# Altium footprint library 工控板PCB.PcbLib: 51 footprints (part 1 of 4)
Each footprint in its own frame and in the unit in brackets; x right, y up, seen from the top. Pads: shape width x height; smd on the part's side, far side on the other; paste and mask are expansions set on the pad; w line width, h text height; cw(c..) or ccw(c..) is an arc to the next point about the centre after c.
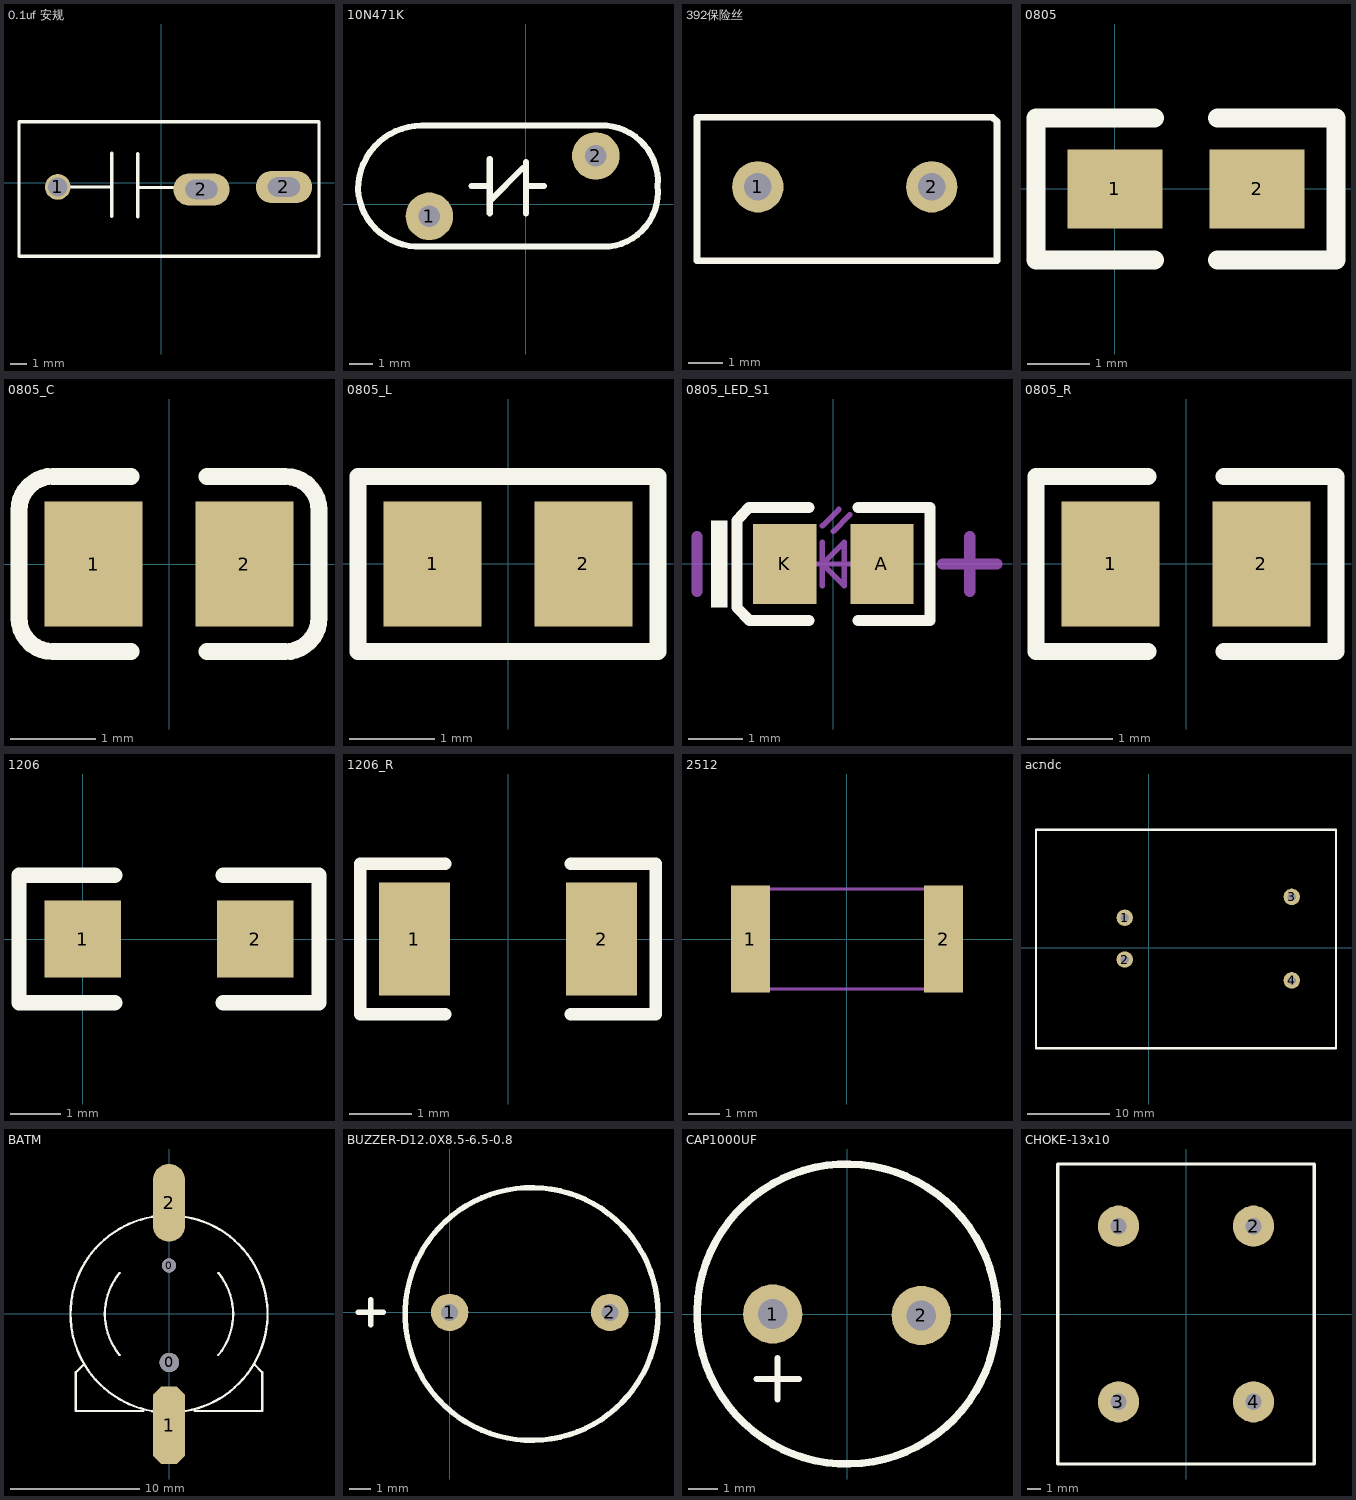
[diagram p0: the footprints below, top view; thin cyan lines are the x and y axes]

## 0.1uf 安规 [mm]
pads (3):
  round 1.6 hole 1.2: 1(-6.452,-0.254)
  oval 3.5x2 hole 1.2 slot 2 at 0 deg: 2(2.489,-0.406) 2(7.62,-0.254)
Top Overlay:
  lines w0.2: -5.817,-0.254 -3.226,-0.254 ; -3.099,-2.083 -3.099,1.854 ; -1.473,-2.108 -1.473,1.829 ; -1.422,-0.279 1.118,-0.279 ; 1.93,-0.254 3.708,-0.254 ; -8.865,-4.572 9.804,-4.572 9.804,3.81 -8.865,3.81 -8.865,-4.572

## 10N471K [mm]
pads (2):
  round 2 hole 0.9: 1(-4.064,-0.508) 2(2.936,2.032)
Top Overlay:
  lines w0.254: -4.521,-1.778 3.48,-1.778 ; -4.394,-1.778 cw(c-4.521,0.762) -7.061,0.635 cw(c-4.394,0.635) -4.394,3.302 3.353,3.302 ; -2.286,0.762 -1.524,0.762 ; -1.524,-0.381 -1.524,1.905 ; -1.524,0 -1.524,0.127 -0.127,1.524 ; 0,-0.381 0,1.778 0,1.143 ; 0,0.762 0.762,0.762 ; 3.378,3.302 cw(c3.188,0.953) 5.537,0.762 cw(c3.251,0.508) 3.505,-1.778

## 392保险丝 [mm]
pads (2):
  round 1.5 hole 0.8: 1(-12.954,-13.716) 2(-7.874,-13.716)
Top Overlay:
  lines w0.2: -10.541,-15.875 -8.636,-15.875 -6.223,-15.875 -5.969,-15.875 -5.969,-11.811 -6.096,-11.684 -8.636,-11.684 -10.541,-11.684 ; -10.414,-15.875 -12.827,-15.875 -14.732,-15.875 -14.732,-11.684 -12.827,-11.684 -10.414,-11.684

## 0805 [mil]
pads (2):
  rect 60x50 smd: 1(0,-0.06) 2(90,-0.06)
Top Overlay:
  lines w12: 25,-45.06 -50,-45.06 -50,44.94 25,44.94 ; 65,-45.06 140,-45.06 140,44.94 65,44.94

## 0805_C [mm]
pads (2):
  rect 1.16x1.47 smd: 1(-0.89,0) 2(0.89,0)
Top Overlay:
  lines w0.2: -0.45,-1.035 -1.37,-1.035 cw(c-1.37,-0.635) -1.77,-0.635 -1.77,0.635 cw(c-1.37,0.635) -1.37,1.035 -0.45,1.035 ; 0.45,-1.035 1.37,-1.035 ccw(c1.37,-0.635) 1.77,-0.635 1.77,0.635 ccw(c1.37,0.635) 1.37,1.035 0.45,1.035
3D body "User Library-0805 SMD Capacitor.STEP": height 0.77, standoff -0.01, extent -0.999,-0.625 1.001,0.625

## 0805_L [mm]
pads (2):
  rect 1.16x1.47 smd: 1(-0.89,0) 2(0.89,0)
Top Overlay:
  lines w0.2: -1.77,-1.035 -1.77,1.035 1.77,1.035 1.77,-1.035 -1.77,-1.035
3D body "L0805.STEP": height 0.6, standoff -0.02, extent -1.022,-0.637 1.028,0.638

## 0805_LED_S1 [mm]
pads (2):
  rect 1.16x1.47 smd: A(0.89,0) K(-0.89,0)
Top Overlay:
  rectangle: -2.245,-0.8 -1.945,0.8
  lines w0.2: -0.45,-1.035 -1.535,-1.035 -1.77,-0.8 -1.77,0.8 -1.55,1.035 -0.45,1.035 ; 0.45,-1.035 1.77,-1.035 1.77,1.035 0.45,1.035
Mechanical 13:
  lines w0.1: -0.4,0 0.4,0 ; -0.2,-0.4 -0.2,0.4 ; -0.2,0.7 0.1,1 ; 0,0.6 0.3,0.9 ; -0.2,0 0.2,0.4 0.2,-0.4 -0.2,0
Mechanical 15:
  lines w0.203: -2.5,-0.5 -2.5,0.5 ; 2,0 3,0 ; 2.5,-0.5 2.5,0.5
3D body "User Library-led_0805.step": height 1.1, standoff 0, extent -1.01,-0.625 1.01,0.625

## 0805_R [mm]
pads (2):
  rect 1.16x1.47 smd: 1(-0.89,0) 2(0.89,0)
Top Overlay:
  lines w0.2: -0.45,-1.035 -1.77,-1.035 -1.77,1.035 -0.45,1.035 ; 0.45,-1.035 1.77,-1.035 1.77,1.035 0.45,1.035
3D body "User Library-R_0805.STEP": height 0.49, standoff -0.01, extent -0.997,-0.625 1.003,0.625

## 1206 [mil]
pads (2):
  rect 60x60 smd: 1(0,0) 2(135,0)
Top Overlay:
  lines w12: 25,-50 -50,-50 -50,50 25,50 ; 110,-50 185,-50 185,50 110,50

## 1206_R [mm]
pads (2):
  rect 1.13x1.8 smd: 1(-1.49,0) 2(1.49,0)
Top Overlay:
  lines w0.2: -1,-1.2 -2.355,-1.2 -2.355,1.2 -1,1.2 ; 1,-1.2 2.355,-1.2 2.355,1.2 1,1.2
3D body "User Library-RES_3216-1206.STEP": height 0.85, standoff 0, extent -1.7,-0.864 1.65,0.866

## 2512 [mm]
pads (2):
  rect 1.25x3.42 smd: 1(-3.1,0) 2(3.1,0)
Mechanical 13:
  lines w0.1: -3.15,-1.6 3.15,-1.6 3.15,1.6 -3.15,1.6 -3.15,-1.6

## acתdc [mm]
pads (4):
  round 2 hole 1: 1(-2.948,3.666) 2(-2.948,-1.414) 3(17.372,6.206) 4(17.372,-3.954)
Top Overlay:
  lines w0.254: -13.748,-12.214 22.752,-12.214 ; -13.748,-12.124 -13.748,14.376 ; -13.743,14.376 22.752,14.376 22.752,-12.124

## BATM [mm]
pads (4):
  round 1.1 hole 1.1 unplated: 0(0,3.748)
  round 1.5 hole 1.5 unplated: 0(0.025,-3.752)
  oct 2.5x6 smd: 1(0,-8.602)
  oval 2.5x6 smd: 2(0,8.598)
Top Overlay:
  lines w0.178: -6.6,-3.902 -7.2,-4.502 -7.2,-7.502 -2,-7.502 ; -3.815,-3.171 cw(c0,-0.002) -3.812,3.171 ; -0.833,-7.576 cw(c0,-0.002) -7.62,-0.002 cw(c0,-0.002) -0.833,7.573 ; 0.833,-7.576 ccw(c0,-0.002) 0.833,7.573 ; 2,-7.502 7.2,-7.502 7.2,-4.502 6.625,-3.927 ; 3.81,-3.177 ccw(c0,-0.002) 3.812,3.171

## BUZZER-D12.0X8.5-6.5-0.8 [mil] "Buzzer"
height 334.65
pads (2):
  round 70 hole 31.5: 1(0,0) 2(299.21,0)
Top Overlay:
  circle w10: c153,-3 r236.22
  lines w10: -171.26,0 -124.02,0 ; -147.64,-23.62 -147.64,23.62
3D body "BUZZER-12x8.5-6.5.step": height 338.66, standoff -212.52, extent -81.44,-237.22 391,235.22

## CAP1000UF [mm]
pads (2):
  round 2 hole 1: 1(-2.5,0) 2(2.5,-0.05)
Top Overlay:
  circle w0.254: c0,0 r5.052
  lines w0.2: -3.048,-2.184 -1.623,-2.184 ; -2.345,-2.885 -2.345,-1.485

## CHOKE-13x10 [mm] "Choke"
height 27.2
pads (4):
  round 3.048 hole 1.2: 1(-5,6.5) 2(5,6.5) 3(-5,-6.5) 4(5,-6.5)
Top Overlay:
  lines w0.254: -9.5,-11.1 -9.5,11.1 9.5,11.1 9.5,-11.1 -9.5,-11.1
3D body "Choke_13x10.step": height 27.18, standoff -3.6, extent -9.5,-11.1 9.5,11.058